# Altium schematic symbol library capacitor_ceramic.SchLib: 1 symbol
Pins are listed as number, name and electrical type; pins without a type are passive.

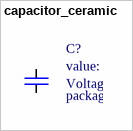
[diagram p0: symbol capacitor_ceramic]

## capacitor_ceramic
designator C?
component category: capacitor*; ComponentLink1Description: datasheet; ComponentLink1URL: *; ComponentLink2Description: supplier link; ComponentLink2URL: *; component type: ceramic; tolarance: *; supplier link: *; supplier currency: *; price,max: *; price,min: *; Quantity,max: *; Quantity,min: *; Operating Temparature,max: *; Operating Temparature,min: *; Supplier Part number: *; Supplier: *; Manufacturer Part number: *; Manufacturer: *; Temperature coefficient: *; package: *; value: *; Voltage: *
footprint capacitor_ceramic_M0603_I0201
footprint capacitor_ceramic_M1005_I0402
footprint capacitor_ceramic_M1608_I0603
footprint capacitor_ceramic_M2012_I0805
footprint capacitor_ceramic_M3216_I1206
footprint capacitor_ceramic_M3225_I1210
footprint capacitor_ceramic_M3246_I1812
footprint capacitor_ceramic_M5025_I2010
footprint capacitor_ceramic_M6332_I2512
pins: 1, 2